# EAGLE library part CD4011DIE (library dice)
4-fach NAND-Gate mit 2 Eingaängen
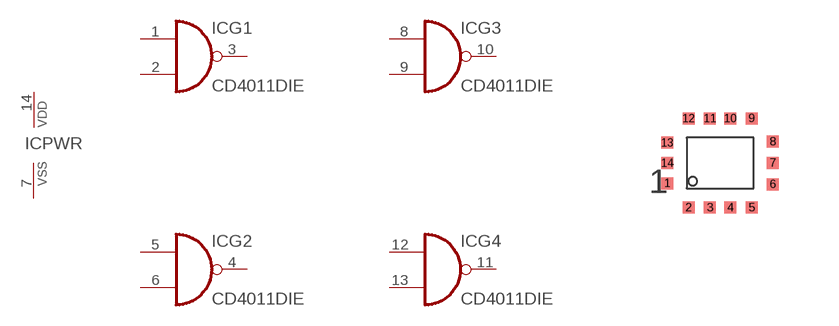
[diagram p1: symbol with the pads of DIE4011; footprint DIE4011]

Designator prefix IC; gates PWR=PWRN G1=4011 G2=4011 G3=4011 G4=4011

## CD4011DIE  [DIE4011]
1  G1:I0  in
2  G1:I1  in
3  G1:O  out
4  G2:O  out
5  G2:I0  in
6  G2:I1  in
7  PWR:VSS  pwr
8  G3:I0  in
9  G3:I1  in
10  G3:O  out
11  G4:O  out
12  G4:I0  in
13  G4:I1  in
14  PWR:VDD  pwr

## Footprint DIE4011 (pad centres in mm)
Bare-Die für Wire-Bonding
smd 0.3 x 0.3: 1 -1.321,-0.508; 2 -0.787,-1.118; 3 -0.254,-1.118; 4 0.254,-1.118; 5 0.787,-1.118; 6 1.321,-0.533; 7 1.321,0; 8 1.321,0.533; 9 0.787,1.118; 10 0.254,1.118; 11 -0.254,1.118; 12 -0.787,1.118; 13 -1.321,0.508; 14 -1.321,0